# Altium footprint library OPL_Sensor-Transducer.PCBLIB: 13 footprints
Each footprint in its own frame and in the unit in brackets; x right, y up, seen from the top. Pads: shape width x height; smd on the part's side, far side on the other; paste and mask are expansions set on the pad; w line width, h text height; cw(c..) or ccw(c..) is an arc to the next point about the centre after c.
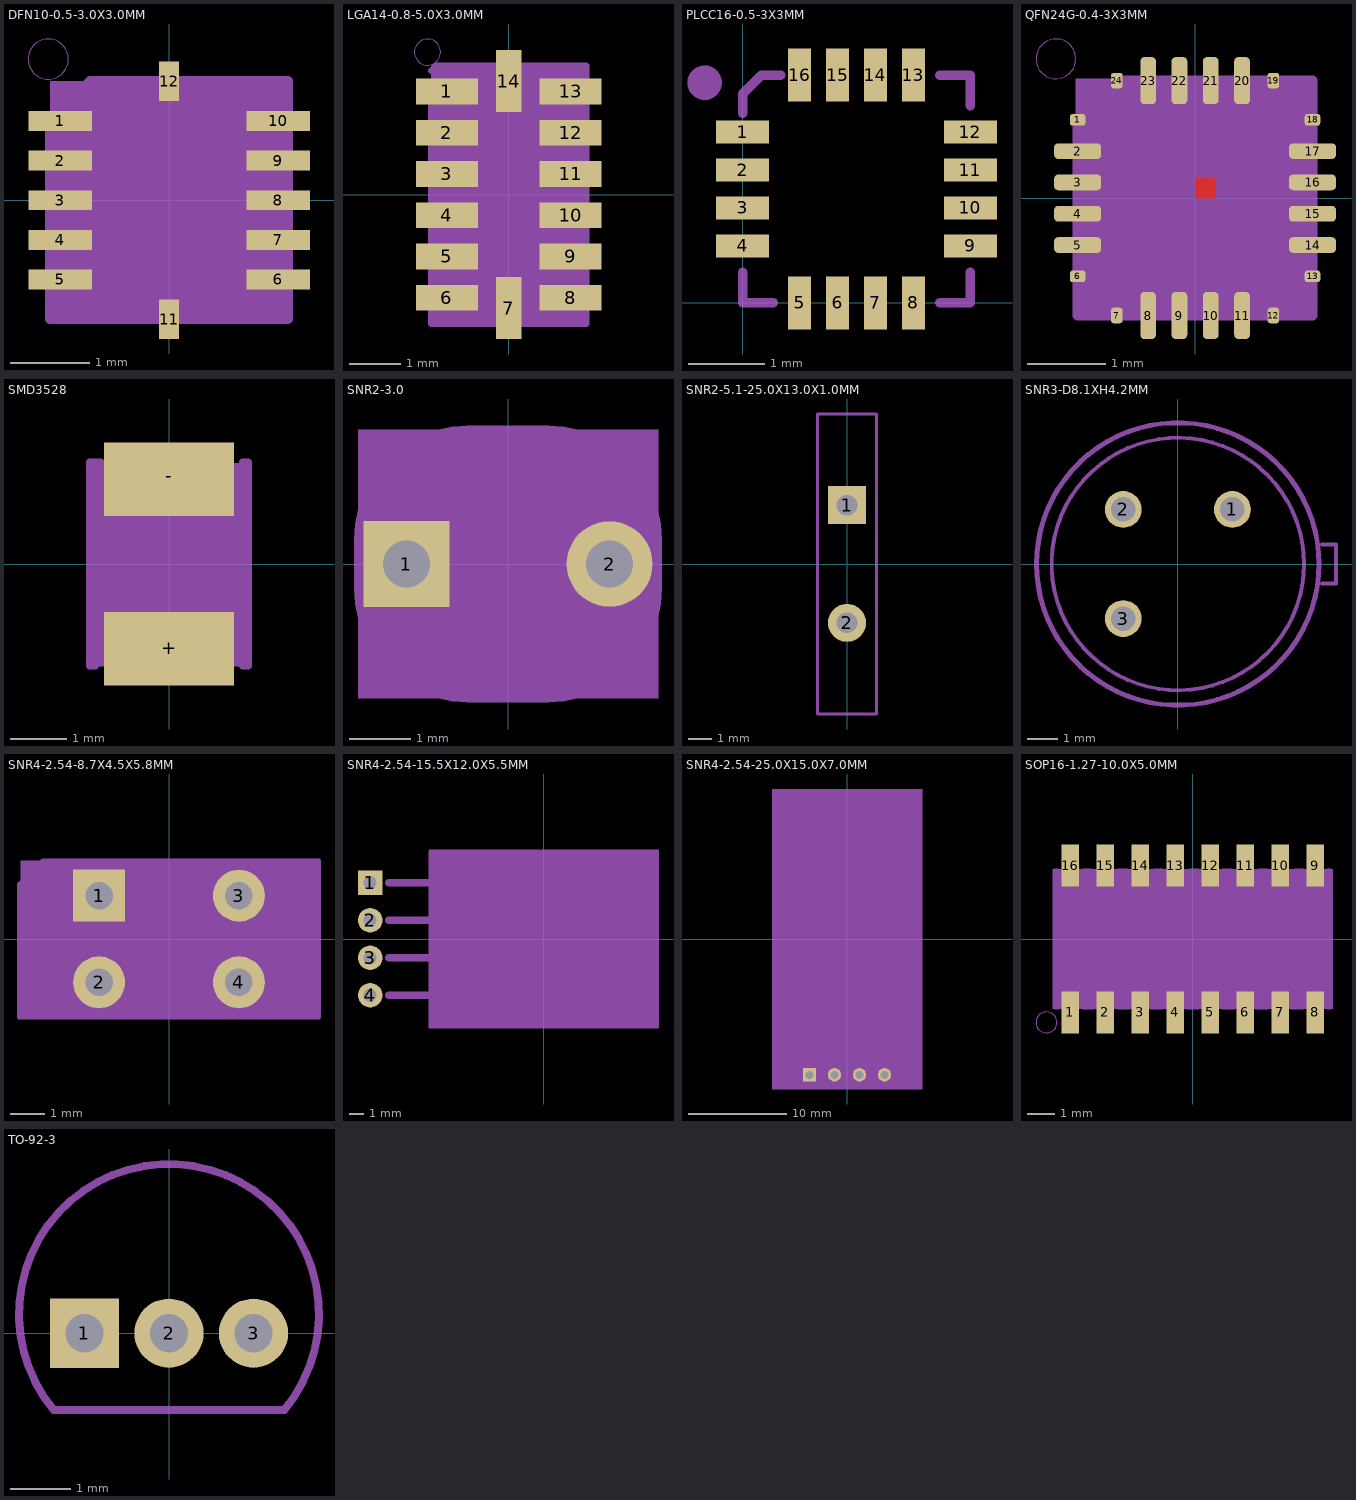
[diagram p0: the footprints below, top view; thin cyan lines are the x and y axes]

## DFN10-0.5-3.0X3.0MM [mil]
pads (12):
  rect 31.5x9.84 smd: 1(-54.13,39.37) 2(-54.13,19.69) 3(-54.13,0) 4(-54.13,-19.69) 5(-54.13,-39.37) 6(54.13,-39.37) 7(54.13,-19.69) 8(54.13,0) 9(54.13,19.69) 10(54.13,39.37)
  rect 9.84x19.69 smd: 11(0,-59.06) 12(0,59.06)
Mechanical 2:
  circle w0: c-60,70 r10
  lines w5: -59.06,-59.06 -59.06,39.18 -39.18,59.06 59.06,59.06 59.06,-59.06 -59.06,-59.06
Mech34:
  region: -59.06,-59.06 -59.06,59.06 59.06,59.06 59.06,-59.06

## LGA14-0.8-5.0X3.0MM [mm]
pads (14):
  rect 1.2x0.5 smd: 1(-1.2,2) 2(-1.2,1.2) 3(-1.2,0.4) 4(-1.2,-0.4) 5(-1.2,-1.2) 6(-1.2,-2) 8(1.2,-2) 9(1.2,-1.2) 10(1.2,-0.4) 11(1.2,0.4) 12(1.2,1.2) 13(1.2,2)
  rect 0.5x1.2 smd: 7(0,-2.2) 14(0,2.2)
Mechanical 2:
  circle w0: c-1.575,2.762 r0.254
  lines w0.127: -1.5,-2.4 -1.5,-2.5 -0.4,-2.5 ; -1.5,2.4 -1.4,2.5 -0.4,2.5 ; 0.4,-2.5 1.5,-2.5 1.5,-2.4 ; 0.4,2.5 1.5,2.5 1.5,2.4
Mechanical 8:
  lines w0.127: -1.5,-2.5 -1.5,2.084 -1.084,2.5 1.5,2.5 1.5,-2.5 -1.5,-2.5
Mech34:
  region: -1.5,-2.5 -1.5,2.5 1.5,2.5 1.5,-2.5

## PLCC16-0.5-3X3MM [mm]
pads (16):
  rect 0.7x0.3 smd: 1(0,2.25) 2(0,1.75) 3(0,1.25) 4(0,0.75) 9(3,0.75) 10(3,1.25) 11(3,1.75) 12(3,2.25)
  rect 0.3x0.7 smd: 5(0.75,0) 6(1.25,0) 7(1.75,0) 8(2.25,0) 13(2.25,3) 14(1.75,3) 15(1.25,3) 16(0.75,3)
Mechanical 2:
  circle w0.254: c-0.5,2.9 r0.1
  lines w0.127: 0,0.4 0,0 0.4,0 ; 0,2.5 0,2.75 0.25,3 0.5,3 ; 2.6,0 3,0 3,0.4 ; 2.6,3 3,3 3,2.6

## QFN24G-0.4-3X3MM [mm]
pads (24):
  rrect50% 0.2x0.15 smd: 1(-1.5,1) 6(-1.5,-1) 13(1.5,-1) 18(1.5,1)
  rrect50% 0.6x0.2 smd: 2(-1.5,0.6) 3(-1.5,0.2) 4(-1.5,-0.2) 5(-1.5,-0.6) 14(1.5,-0.6) 15(1.5,-0.2) 16(1.5,0.2) 17(1.5,0.6)
  rrect50% 0.15x0.2 smd: 7(-1,-1.5) 12(1,-1.5) 19(1,1.5) 24(-1,1.5)
  rrect50% 0.2x0.6 smd: 8(-0.6,-1.5) 9(-0.2,-1.5) 10(0.2,-1.5) 11(0.6,-1.5) 20(0.6,1.5) 21(0.2,1.5) 22(-0.2,1.5) 23(-0.6,1.5)
Top Layer:
  region: 0,0 0.254,0 0.254,0.254 0,0.254
  region: 0,0 0.254,0 0.254,0.254 0,0.254
  region: 0,0 0.254,0 0.254,0.254 0,0.254
  region: 0,0 0.254,0 0.254,0.254 0,0.254
  region: 0,0 0.254,0 0.254,0.254 0,0.254
  region: 0,0 0.254,0 0.254,0.254 0,0.254
  region: 0,0 0.254,0 0.254,0.254 0,0.254
  region: 0,0 0.254,0 0.254,0.254 0,0.254
Top Paste:
  region: 0,0 0.254,0 0.254,0.254 0,0.254
  region: 0,0 0.254,0 0.254,0.254 0,0.254
  region: 0,0 0.254,0 0.254,0.254 0,0.254
  region: 0,0 0.254,0 0.254,0.254 0,0.254
  region: 0,0 0.254,0 0.254,0.254 0,0.254
  region: 0,0 0.254,0 0.254,0.254 0,0.254
  region: 0,0 0.254,0 0.254,0.254 0,0.254
  region: 0,0 0.254,0 0.254,0.254 0,0.254
  region: 0,0 0.254,0 0.254,0.254 0,0.254
Top Solder:
  region: 0,0 0.254,0 0.254,0.254 0,0.254
  region: 0,0 0.254,0 0.254,0.254 0,0.254
  region: 0,0 0.254,0 0.254,0.254 0,0.254
  region: 0,0 0.254,0 0.254,0.254 0,0.254
  region: 0,0 0.254,0 0.254,0.254 0,0.254
  region: 0,0 0.254,0 0.254,0.254 0,0.254
  region: 0,0 0.254,0 0.254,0.254 0,0.254
  region: 0,0 0.254,0 0.254,0.254 0,0.254
Mechanical 2:
  circle w0: c-1.778,1.778 r0.254
  lines w0.127: -1.5,-1.5 -1.5,0.964 -0.964,1.5 1.5,1.5 1.5,-1.5 -1.5,-1.5
Mech34:
  region: -1.524,-1.524 -1.524,1.524 1.524,1.524 1.524,-1.524

## SMD3528 [mil]
pads (2):
  rect 90.55x51.18 smd: +(0,-59.06) -(0,59.06)
Mechanical 2:
  region: 0,0 10,0 10,10 0,10
  lines w5: -51.18,-70.87 -55.12,-70.87 -55.12,70.87 -47.24,70.87 ; 51.18,-70.87 55.12,-70.87 55.12,70.87 51.18,70.87
Mechanical 8:
  lines w5: -55.12,-68.9 55.12,-68.9 55.12,40.62 26.84,68.9 -55.12,68.9 -55.12,-68.9
Mech34:
  region: -55,-70 -55,70 55,70 55,-70

## SNR2-3.0 [mil]
pads (2):
  rect 55x55 hole 30: 1(-65,0)
  round 55 hole 30: 2(65,0)
Mechanical 2:
  lines w5: -96,-16 ccw(c-26,-16) -26,-86 26,-86 ccw(c26,-16) 96,-16 96,16 ccw(c26,16) 26,86 -26,86 ccw(c-26,16) -96,16 -96,-16
Mech34:
  region: -96,-86 -96,86 96,86 96,-86

## SNR2-5.1-25.0X13.0X1.0MM [mil]
pads (2):
  rect 65x65 hole 35: 1(0,100.39)
  round 65 hole 35: 2(0,-100.39)
Mechanical 2:
  lines w5: -50,-255.91 50,-255.91 50,255.91 -50,255.91 -50,-255.91

## SNR3-D8.1XH4.2MM [mil]
pads (3):
  round 47.25 hole 31.5: 1(70,70) 2(-70,70) 3(-70,-70)
Mechanical 2:
  circle w5: c0,0 r182
  circle w5: c0,0 r162
  lines w5: 185,-25 203,-25 203,25 185,25
Mech34:
  circle w5: c0,0 r180.62

## SNR4-2.54-8.7X4.5X5.8MM [mil]
pads (4):
  rect 60x60 hole 32: 1(-80.71,50)
  round 60 hole 32: 2(-80.71,-50) 3(80.71,50) 4(80.71,-50)
Mechanical 2:
  lines w5: 0,-90.55 -173.23,-90.55 -173.23,63.08 -145.76,90.55 0,90.55 ; 0,-90.55 173.23,-90.55 173.23,90.55 0,90.55 ; 0,-90.55 0,90.55
Mechanical 8:
  circle w5: c-90.55,0 r68.9
  circle w5: c90.55,0 r68.9
Mech34:
  region: -171.26,-90.55 -171.26,90.55 171.26,90.55 171.26,-90.55

## SNR4-2.54-15.5X12.0X5.5MM [mil]
pads (4):
  rect 65x65 hole 35: 1(-462.6,150)
  round 65 hole 35: 2(-462.6,50) 3(-462.6,-50) 4(-462.6,-150)
Mechanical 2:
  lines w5: -305.12,-236.22 305.12,-236.22 305.12,236.22 -305.12,236.22 -305.12,-236.22
  lines w20: -413.39,-150 -305,-150 ; -413.39,-50 -305,-50 ; -413.39,50 -305,50 ; -413.39,150 -305,150
Mech34:
  region: -305,-235 -305,235 305,235 305,-235

## SNR4-2.54-25.0X15.0X7.0MM [mm]
pads (4):
  rect 1.35x1.35 hole 0.8: P$1(-3.81,-13.8)
  round 1.35 hole 0.8: P$2(-1.27,-13.8) P$3(1.27,-13.8) P$4(3.81,-13.8)
Mechanical 2:
  lines w0.127: -3.81,-12.7 -3.81,-10 ; -1.27,-12.7 -1.27,-10 ; 1.27,-12.7 1.27,-10 ; 3.81,-12.7 3.81,-10 ; -7.55,10 7.55,10 ; -7.55,10 -7.55,-10 -3.81,-10 ; -7.55,10 -5,15 5,15 7.55,10 ; -3.81,-10 -1.27,-10 ; -1.27,-10 1.27,-10 ; 1.27,-10 3.81,-10 ; 3.81,-10 7.55,-10 7.55,10
Mech34:
  region: -7.62,-15.24 -7.62,15.24 7.62,15.24 7.62,-15.24

## SOP16-1.27-10.0X5.0MM [mil]
pads (16):
  rect 25x60 smd: 1(-175,-105) 2(-125,-105) 3(-75,-105) 4(-25,-105) 5(25,-105) 6(75,-105) 7(125,-105) 8(175,-105) 9(175,105) 10(125,105) 11(75,105) 12(25,105) 13(-25,105) 14(-75,105) 15(-125,105) 16(-175,105)
Mechanical 2:
  circle w0: c-209.25,-119.37 r15
  lines w5: -196.85,-70.87 -196.85,-98.43 -192.91,-98.43 ; -196.85,-70 -196.85,70 ; -196.85,70.87 -196.85,98.43 -192.91,98.43 ; -157.48,-98.43 -141.73,-98.43 ; -157.48,98.43 -145.67,98.43 ; -106.3,-98.43 -90.55,-98.43 ; -106.3,98.43 -94.49,98.43 ; -59.06,-98.43 -43.31,-98.43 ; -55.12,98.43 -43.31,98.43 ; -7.87,-98.43 7.87,-98.43 ; -3.94,98.43 7.87,98.43 ; 43.31,-98.43 59.06,-98.43 ; 43.31,98.43 55.12,98.43 ; 90.55,-98.43 106.3,-98.43 ; 94.49,98.43 106.3,98.43 ; 141.73,-98.43 157.48,-98.43 ; 145.67,98.43 157.48,98.43 ; 192.91,-98.43 196.85,-98.43 196.85,-70.87 ; 192.91,98.43 196.85,98.43 196.85,70.87 ; 196.85,-70 196.85,70
Mech34:
  region: -200,-100 -200,100 200,100 200,-100

## TO-92-3 [mil]
pads (3):
  rect 45x45 hole 25: 1(-55,0)
  round 45 hole 25: 2(0,0) 3(55,0)
Mechanical 2:
  lines w5: -75,-50 cw(c0,12.5) 75,-50 -75,-50
Mech34:
  lines w5: -75,-50 cw(c0,12.5) 75,-50 -75,-50